# Altium footprint library RMCF0805FT40K2.PcbLib: 1 footprints
Each footprint in its own frame and in the unit in brackets; x right, y up, seen from the top. Pads: shape width x height; smd on the part's side, far side on the other; paste and mask are expansions set on the pad; w line width, h text height; cw(c..) or ccw(c..) is an arc to the next point about the centre after c.
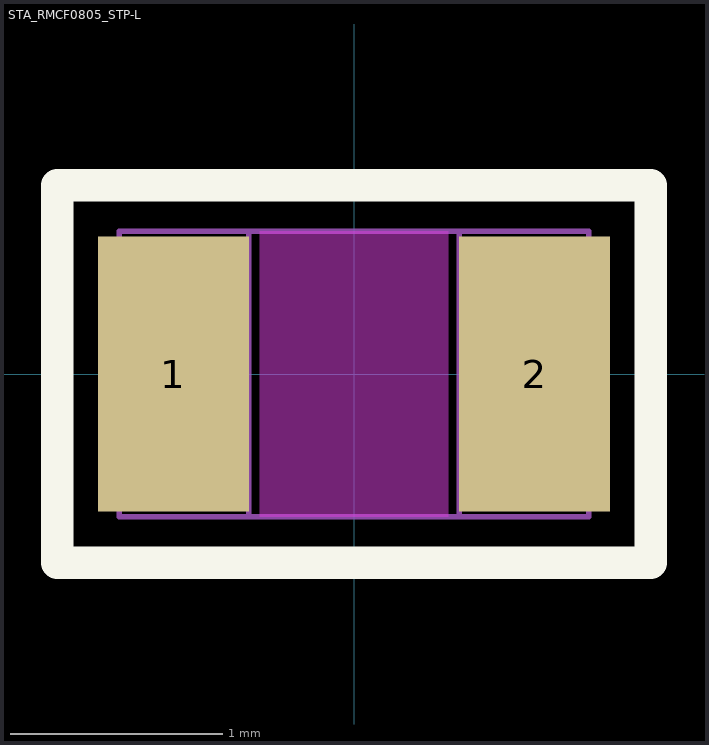
[diagram p0: the footprint, top view; thin cyan lines are the x and y axes]

## STA_RMCF0805_STP-L [mil]
pads (2):
  rect 28x51 smd paste+0 mask+0: 1(-33.5,0) 2(33.5,0)
Top Layer keep-out:
  region: -17.5,-24.5 -17.5,24.5 17.5,24.5 17.5,-24.5
Top Overlay:
  lines w6: -55,-35 55,-35 55,35 -55,35 -55,-35
  text ".Designator" at -40,45 h20
Keep-Out Layer:
  region: -17.5,-26.5 -17.5,26.5 17.5,26.5 17.5,-26.5
Mechanical 13:
  lines w1: -43.5,-26.5 -43.5,26.5 ; -43.5,-26.5 43.5,-26.5 ; -43.5,-26.5 -19.5,-26.5 -19.5,26.5 -43.5,26.5 ; -43.5,-26.5 -43.5,26.5 ; -43.5,26.5 43.5,26.5 ; 43.5,-26.5 43.5,26.5 ; 43.5,-26.5 43.5,26.5 ; 43.5,-26.5 19.5,-26.5 19.5,26.5 43.5,26.5
3D body "STA_RMCF0805_STP.step": height 25.98, standoff 0, extent -43.5,-26.5 43.5,26.5